# EAGLE library part MODJACK-6P6C (library eagleparts)
digikey 380-SS-90000-003-ND
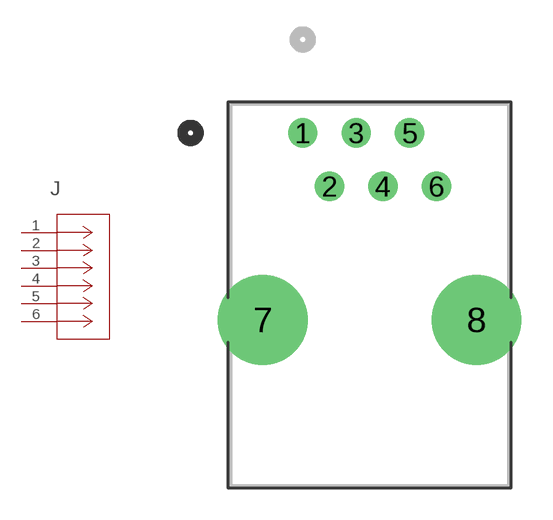
[diagram p14: symbol with the pads of CONN_SS-90000-003_STW; footprint CONN_SS-90000-003_STW]

Designator prefix J

## MODJACK-6P6CCONN_SS-90000-003_STW (COPYRIGHT: Copyright (C) 2024 Ultra Librarian. All rights reserved.; MANUFACTURER_PART_NUMBER: SS-90000-003; MFR_NAME: Stewart Connector)  [CONN_SS-90000-003_STW]
1  1  pas
2  2  pas
3  3  pas
4  4  pas
5  5  pas
6  6  pas

## Footprint CONN_SS-90000-003_STW (pad centres in mm)
drill 0.889 pad 1.397: 1 0,0; 2 1.27,-2.54; 3 2.54,0; 4 3.81,-2.54; 5 5.08,0; 6 6.35,-2.54
drill 3.251 pad 3.251: 7 -1.905,-8.89; 8 8.255,-8.89